# EAGLE library part BME680 (library bschulz)
BME680 - Low power gas, pressure, tempurature, humidity sensor Characteristics: Vcc: 1.8V ~ 3.3V Pressure Range: 300 ~ 1100 mBar Pressure Resolution: 0.0015 mBar, max Pressure Accuracy: relative ±0.12 mBar, abs ± 1 mBar Humidity Resolution: 0.008% RH, max Humidity Accuracy: ±3% RH Temperature Resolution: 0.01°C Temperature Accuracy: 0.5°C Gas Response Time: <1s Gas Sensor Output: IAQ Index Operating Temperature: -40°C to 85°C Digikey: 828-1077-1-ND <https://www.digikey.com/product-detail/en/bosch-sensortec/BME680/828-1077-1-ND/7401321>
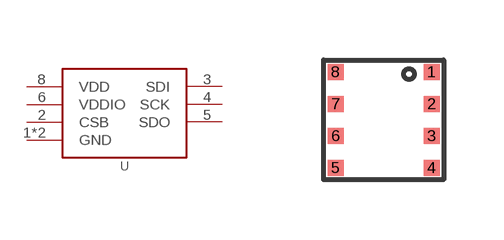
[diagram p101: symbol with the pads of BMP680; footprint BMP680]

Designator prefix U

## BME680 (DIGIKEY: 828-1077-1-ND; DISP: BME680; MF: Bosch; MPN: BME680)  [BMP680]
1  GND  pwr
2  CSB
3  SDI
4  SCK
5  SDO
6  VDDIO
7  GND  pwr
8  VDD  pwr

## Footprint BMP680 (pad centres in mm)
smd 0.4 x 0.4: 1 1.2,1.2; 2 1.2,0.4; 3 1.2,-0.4; 4 1.2,-1.2; 5 -1.2,-1.2; 6 -1.2,-0.4; 7 -1.2,0.4; 8 -1.2,1.2